# Altium footprint library 4.0inch_48P_0.8mm.PcbLib: 1 footprints
Each footprint in its own frame and in the unit in brackets; x right, y up, seen from the top. Pads: shape width x height; smd on the part's side, far side on the other; paste and mask are expansions set on the pad; w line width, h text height; cw(c..) or ccw(c..) is an arc to the next point about the centre after c.
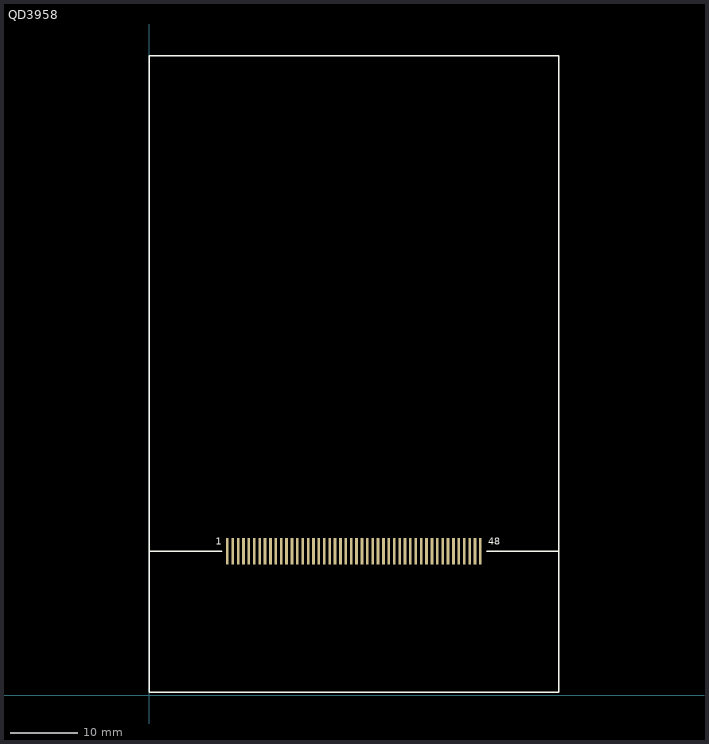
[diagram p0: the footprint, top view; thin cyan lines are the x and y axes]

## QD3958 [mm]
pads (48):
  rect 0.4x4 smd: 1(11.62,21.37) 2(12.42,21.37) 3(13.22,21.37) 4(14.02,21.37) 5(14.82,21.37) 6(15.62,21.37) 7(16.42,21.37) 8(17.22,21.37) 9(18.02,21.37) 10(18.82,21.37) 11(19.62,21.37) 12(20.42,21.37) 13(21.22,21.37) 14(22.02,21.37) 15(22.82,21.37) 16(23.62,21.37) 17(24.42,21.37) 18(25.22,21.37) 19(26.02,21.37) 20(26.82,21.37) 21(27.62,21.37) 22(28.42,21.37) 23(29.22,21.37) 24(30.02,21.37) 25(30.82,21.37) 26(31.62,21.37) 27(32.42,21.37) 28(33.22,21.37) 29(34.02,21.37) 30(34.82,21.37) 31(35.62,21.37) 32(36.42,21.37) 33(37.22,21.37) 34(38.02,21.37) 35(38.82,21.37) 36(39.62,21.37) 37(40.42,21.37) 38(41.22,21.37) 39(42.02,21.37) 40(42.82,21.37) 41(43.62,21.37) 42(44.42,21.37) 43(45.22,21.37) 44(46.02,21.37) 45(46.82,21.37) 46(47.62,21.37) 47(48.42,21.37) 48(49.22,21.37)
Top Overlay:
  lines w0.254: 0,21.37 10.795,21.37 ; 50.165,21.37 60.88,21.37 ; 0,0.43 60.88,0.43 60.88,95 0,95 0,0.43
  text "1" at 9.906,22.352 h1.02
  text "48" at 50.419,22.352 h1.02